# Altium schematic symbol library Inductors.SchLib: 11 symbols
Pins are listed as number, name and electrical type; pins without a type are passive.

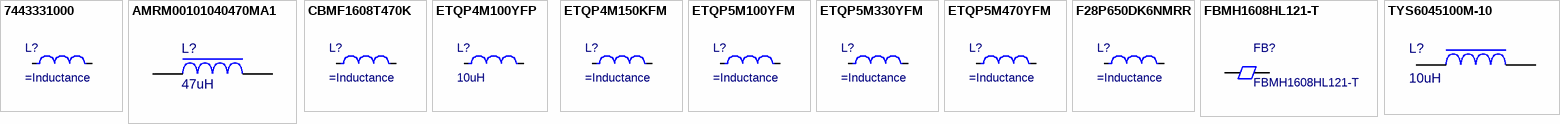
[diagram p0: symbols 7443331000 to TYS6045100M-10]

## 7443331000
designator L?
PowerChoke Shielded Wirewound 10uH 20% 100KHz Ferrite 9A 0.0231Ohm DCR Automotive T/R; Manufacturer: Wurth Elektronik; Manufacturer Part Number: 7443331000; DC Resistance (DCR): 22.75mΩ; Value: 10µH; Saturation Current: 9.4A; Self Resonant Frequency: 35MHz; Supplier: DigiKey; Supplier Part Number: 732-2158-1-ND; RoHS: Compliant; Category: Fixed Inductors; Stock: 12212; Pricing: 1=2,4, 10=2,32, 50=2,21, 100=2,13, 200=2,05 (USD); Ambient Temperature Range High: 75°C; Ambient Temperature Range Low: -40°C; Core Material: Ferrite; Current Rating: 9A; Height: 9.3mm; Inductance Tolerance: 20%; Length: 10.9mm; Material: Ferrite; Max Operating Temperature: 125°C; Min Operating Temperature: -40°C; Pins: 2; Width: 10mm; Inductance: 10µH; Supplier 1: DigiKey; Supplier Part Number 1: 732-2158-1-ND
pins: 1, 2

## AMRM00101040470MA1
designator L?, comment 47uH
IND 47UH SHLD 20% 3.0A; Manufacturer: Pulse; Manufacturer Part Number: AMRM00101040470MA1; Supplier: Digikey; Supplier Part Number: 553-AMRM00101040470MA1CT-ND; RoHS: No; Stock: 9595; Pricing: 1=0,6, 10=0,497, 25=0,46, 50=0,4336, 100=0,4089, 250=0,37824 (USD); ComponentLink1URL: https://datasheet.octopart.com/AMRM00101040470MA1-Pulse-datasheet-175919293.pdf?src-supplier=Sager+Electronics; ComponentLink1Description: https://datasheet.octopart.com/AMRM00101040470MA1-Pulse-datasheet-175919293.pdf?src-supplier=Sager+Electronics; Supplier 1: Digikey; Supplier Part Number 1: 553-AMRM00101040470MA1CT-ND; Inductance: 47uH
footprint AMRM00101040470MA1 (Inductor 11.6x10.2)
pins: 1, 2

## CBMF1608T470K
designator L?
Inductor Power Chip Wirewound 47uH 10% 2.52MHz Ferrite 0.14A 3.25Ohm DCR 0603 T/R; Manufacturer: Taiyo Yuden; Manufacturer Part Number: CBMF1608T470K; Current Rating: 50mA; DC Current: 140mA; DC Resistance (DCR): 2.5Ω; Value: 47µH; Number of Circuits: 1; Self Resonant Frequency: 11MHz; ESR: 3.25Ω; Shielding: No; Supplier: DigiKey; Supplier Part Number: 587-1722-1-ND; RoHS: Compliant; Category: Fixed Inductors; Stock: 121922; Pricing: 1=0,16, 10=0,131, 100=0,1079, 1000=0,08875 (USD); Case/Package: 0603; Case Code (Imperial): 0603; Case Code (Metric): 1608; Composition: Wirewound; Core Material: Ferrite; Depth: 1mm; Halogen Free: Halogen Free; Height: 800µm; Height - Seated (Max): 990.6µm; Inductance Tolerance: 10%; Lead Free: Lead Free; Length: 1.6002mm; Lifecycle Status: Production; Max Current Rating: 50mA; Max DC Current: 140mA; Max Length: 1.8mm; Max Operating Temperature: 105°C; Max Saturation Current: 50mA; Max Temperature Rise Current: 140mA; Max Width: 1mm; Military Standard: Not; Min Length: 1.4mm; Min Operating Temperature: -40°C; Min Width: 600µm; Mounting Technology: Surface Mount; Number of Terminals: 2; Radiation Hardening: No; REACH SVHC: Yes; RMS Current (Irms): 140mA; Saturation Current: 50mA; Termination: SMD/SMT; Test Frequency: 2.52MHz; Tolerance: 10%; Width: 800µm; ComponentLink1URL: https://datasheet.octopart.com:443/CBMF1608T470K-Taiyo-Yuden-datasheet-181258718.pdf?src-supplier=Newark; ComponentLink1Description: https://datasheet.octopart.com:443/CBMF1608T470K-Taiyo-Yuden-datasheet-181258718.pdf?src-supplier=Newark; ComponentLink2URL: https://datasheet.octopart.com:443/CBMF1608T470K-Taiyo-Yuden-datasheet-120109.pdf?src-supplier=Farnell; ComponentLink2Description: https://datasheet.octopart.com:443/CBMF1608T470K-Taiyo-Yuden-datasheet-120109.pdf?src-supplier=Farnell; ComponentLink3URL: https://datasheet.octopart.com:443/CBMF1608T470K-Taiyo-Yuden-datasheet-154807662.pdf?src-supplier=Master+Electronics; ComponentLink3Description: https://datasheet.octopart.com:443/CBMF1608T470K-Taiyo-Yuden-datasheet-154807662.pdf?src-supplier=Master+Electronics; ComponentLink4URL: https://datasheet.octopart.com:443/CBMF1608T470K-Taiyo-Yuden-datasheet-141251735.pdf?src-supplier=Taiyo+Yuden+SCT; ComponentLink4Description: https://datasheet.octopart.com:443/CBMF1608T470K-Taiyo-Yuden-datasheet-141251735.pdf?src-supplier=Taiyo+Yuden+SCT; ComponentLink5URL: https://datasheet.octopart.com:443/CBMF1608T470K-Taiyo-Yuden-datasheet-98959855.pdf?src-supplier=Future+Electronics; ComponentLink5Description: https://datasheet.octopart.com:443/CBMF1608T470K-Taiyo-Yuden-datasheet-98959855.pdf?src-supplier=Future+Electronics; ComponentLink6URL: https://datasheet.octopart.com:443/CBMF1608T470K-Taiyo-Yuden-datasheet-62109205.pdf?src-supplier=Electro+Sonic; ComponentLink6Description: https://datasheet.octopart.com:443/CBMF1608T470K-Taiyo-Yuden-datasheet-62109205.pdf?src-supplier=Electro+Sonic; ComponentLink7URL: https://datasheet.octopart.com:443/CBMF1608T470K-Taiyo-Yuden-datasheet-41181422.pdf?src-supplier=Electro+Sonic; ComponentLink7Description: https://datasheet.octopart.com:443/CBMF1608T470K-Taiyo-Yuden-datasheet-41181422.pdf?src-supplier=Electro+Sonic; ComponentLink8URL: https://datasheet.octopart.com/CBMF1608T470K-Taiyo-Yuden-datasheet-17272049.pdf; ComponentLink8Description: https://datasheet.octopart.com/CBMF1608T470K-Taiyo-Yuden-datasheet-17272049.pdf; ComponentLink9URL: https://datasheet.octopart.com:443/CBMF1608T470K-Taiyo-Yuden-datasheet-13714792.pdf?src-supplier=_legacy+Avnet; ComponentLink9Description: https://datasheet.octopart.com:443/CBMF1608T470K-Taiyo-Yuden-datasheet-13714792.pdf?src-supplier=_legacy+Avnet; Supplier 1: DigiKey; Supplier Part Number 1: 587-1722-1-ND; Inductance: 47µH
pins: 1, 2

## ETQP4M100YFP
designator L?, comment 10uH
Inductor Fixed 10UH SMD; Manufacturer: Panasonic; Manufacturer Part Number: ETQ-P4M100YFP; Supplier 1: DigiKey; Supplier Part Number 1: 10-ETQ-P4M100YFPCT-ND; Supplier: DigiKey; Supplier Part Number: 10-ETQ-P4M100YFPCT-ND; Category: Fixed Inductors; Pricing: 1=1,05, 10=0,86, 25=0,796, 50=0,7504, 100=0,7075, 250=0,65452, 500=0,61714 (USD); Inductance: 10uH
footprint ETQP4MxxxYFP (5.5mm x5mm inductor package)
pins: 1, 2

## ETQP4M150KFM
designator L?
Power Inductor, 15Uh, Shielded, 7.2A Rohs Compliant: Yes |Panasonic ETQP4M150KFM; DC Resistance (DCR): 66.77mΩ; Value: 15µH; Max Current Rating: 4.6A; Number of Circuits: 1; Test Frequency: 100kHz; Tolerance: 20%; Supplier 1: DigiKey; Supplier Part Number 1: 10-ETQ-P4M150KFMCT-ND; Supplier: DigiKey; Supplier Part Number: 10-ETQ-P4M150KFMCT-ND; Manufacturer: Panasonic; Manufacturer Part Number: ETQP4M150KFM; RoHS: Compliant; Category: Fixed Inductors; Stock: 1970; Pricing: 1=0,76, 10=0,623, 25=0,5768, 50=0,5438, 100=0,5126, 250=0,47424 (USD); Height: 4.8mm; Lifecycle Status: Production; Max Operating Temperature: 150°C; Min Operating Temperature: -40°C; Number of Terminals: 2; REACH SVHC: Yes; Shielding: Yes; Width: 7mm; ComponentLink1URL: https://datasheet.octopart.com:443/ETQP4M150KFM-Panasonic-datasheet-180975443.pdf?src-supplier=IHS; ComponentLink1Description: https://datasheet.octopart.com:443/ETQP4M150KFM-Panasonic-datasheet-180975443.pdf?src-supplier=IHS; Inductance: 15µH
footprint ETQP4MxxxYFP (5.5mm x5mm inductor package)
pins: 1, 2

## ETQP5M100YFM
designator L?
Power Choke Shielded Wirewound 10uH 20% 100KHz Metal 5.7A 0.0413Ohm DCR Automotive T/R; Manufacturer: Panasonic; Manufacturer Part Number: ETQP5M100YFM; Core Material: Composite, Metal; DC Resistance (DCR): 41.3mΩ; Value: 10µH; Number of Circuits: 1; Saturation Current: 10.6A; Shielding: Yes; Supplier 1: DigiKey; Supplier Part Number 1: P17067CT-ND; Supplier: DigiKey; Supplier Part Number: P17067CT-ND; RoHS: Compliant; Category: Fixed Inductors; Stock: 4198; Pricing: 1=1,06, 10=0,873, 25=0,8072, 50=0,7612, 100=0,7176, 250=0,66392 (USD); Case/Package: Nonstandard; Composition: Wirewound; Depth: 7mm; Height: 5.4mm; Height - Seated (Max): 5.4102mm; Inductance Tolerance: 20%; Length: 7.493mm; Lifecycle Status: Production; Max Current Rating: 5.7A; Max DC Current: 5.7A; Max Operating Temperature: 150°C; Min Operating Temperature: -40°C; Mounting Technology: Surface Mount; Number of Terminals: 2; Packaging: Cut Tape; Ratings: AEC-Q200; REACH SVHC: Yes; Schedule B: 8504500000, 8504500000|8504500000|8504500000|8504500000|8504500000; Self Resonant Frequency: 100kHz; Termination: SMD/SMT; Test Frequency: 100kHz; Tolerance: 20%; Width: 7mm; ComponentLink1URL: https://datasheet.octopart.com:443/ETQP5M100YFM-Panasonic-datasheet-180975438.pdf?src-supplier=IHS; ComponentLink1Description: https://datasheet.octopart.com:443/ETQP5M100YFM-Panasonic-datasheet-180975438.pdf?src-supplier=IHS; ComponentLink2URL: https://datasheet.octopart.com:443/ETQP5M100YFM-Panasonic-datasheet-97125960.pdf?src-supplier=Future+Electronics; ComponentLink2Description: https://datasheet.octopart.com:443/ETQP5M100YFM-Panasonic-datasheet-97125960.pdf?src-supplier=Future+Electronics; ComponentLink3URL: https://datasheet.octopart.com:443/ETQP5M100YFM-Panasonic-datasheet-136612417.pdf?src-supplier=Newark; ComponentLink3Description: https://datasheet.octopart.com:443/ETQP5M100YFM-Panasonic-datasheet-136612417.pdf?src-supplier=Newark; ComponentLink4URL: https://datasheet.octopart.com:443/ETQP5M100YFM-Panasonic-datasheet-175423512.pdf?src-supplier=Newark; ComponentLink4Description: https://datasheet.octopart.com:443/ETQP5M100YFM-Panasonic-datasheet-175423512.pdf?src-supplier=Newark; ComponentLink5URL: https://datasheet.octopart.com:443/ETQ-P5M100YFM-Panasonic-datasheet-154766191.pdf?src-supplier=Master+Electronics; ComponentLink5Description: https://datasheet.octopart.com:443/ETQ-P5M100YFM-Panasonic-datasheet-154766191.pdf?src-supplier=Master+Electronics; ComponentLink6URL: https://datasheet.octopart.com:443/ETQ-P5M100YFM-Panasonic-datasheet-140363995.pdf?src-supplier=Master+Electronics; ComponentLink6Description: https://datasheet.octopart.com:443/ETQ-P5M100YFM-Panasonic-datasheet-140363995.pdf?src-supplier=Master+Electronics; ComponentLink7URL: https://datasheet.octopart.com:443/ETQP5M100YFM-Panasonic-datasheet-41393403.pdf?src-supplier=Electro+Sonic; ComponentLink7Description: https://datasheet.octopart.com:443/ETQP5M100YFM-Panasonic-datasheet-41393403.pdf?src-supplier=Electro+Sonic; ComponentLink8URL: https://datasheet.octopart.com:443/ETQP5M100YFM-Panasonic-datasheet-156876476.pdf?src-supplier=TME; ComponentLink8Description: https://datasheet.octopart.com:443/ETQP5M100YFM-Panasonic-datasheet-156876476.pdf?src-supplier=TME; ComponentLink9URL: https://sigma.octopart.com:443/150570891/technical_drawing/Panasonic-ETQP5M100YFM.pdf?src-supplier=Panasonic+SCT; ComponentLink9Description: https://sigma.octopart.com:443/150570891/technical_drawing/Panasonic-ETQP5M100YFM.pdf?src-supplier=Panasonic+SCT; Inductance: 10µH
footprint ETQP5MxxxYFM (7.5mm x7mm inductor package)
pins: 1, 2

## ETQP5M330YFM
designator L?
Ind Power Choke Wirewound 34uH 20% 100KHz Metal 3.3A T/R; Manufacturer: Panasonic; Manufacturer Part Number: ETQP5M330YFM; Core Material: Composite, Metal; DC Resistance (DCR): 132mΩ; Value: 33µH; Number of Circuits: 1; RMS Current (Irms): 2.6A; Saturation Current: 4.8A; ESR: 120mΩ; Shielding: Yes; Supplier 1: DigiKey; Supplier Part Number 1: PCD2460CT-ND; Supplier: DigiKey; Supplier Part Number: PCD2460CT-ND; RoHS: Compliant; Category: Fixed Inductors; Stock: 921; Pricing: 1=1,06, 10=0,873, 25=0,8072, 50=0,7612, 100=0,7176, 250=0,66392 (USD); Case/Package: Nonstandard; Composition: Wirewound; Current Rating: 3.3A; Depth: 7.9mm; Height: 5.4mm; Height - Seated (Max): 5.4102mm; Inductance Tolerance: 20%; Length: 8.509mm; Lifecycle Status: Production; Max Current Rating: 3.3A; Max DC Current: 3.3A; Max Operating Temperature: 150°C; Military Standard: Not; Min Operating Temperature: -40°C; Mounting Technology: Surface Mount; Number of Terminals: 2; Packaging: Cut Tape; Ratings: AEC-Q200; REACH SVHC: Yes; Schedule B: 8504500000|8504500000|8504500000|8504500000|8504500000; Self Resonant Frequency: 100kHz; Test Frequency: 100kHz; Tolerance: 20%; Width: 7mm; ComponentLink1URL: https://datasheet.octopart.com:443/ETQP5M330YFM-Panasonic-datasheet-180975438.pdf?src-supplier=IHS; ComponentLink1Description: https://datasheet.octopart.com:443/ETQP5M330YFM-Panasonic-datasheet-180975438.pdf?src-supplier=IHS; ComponentLink2URL: https://datasheet.octopart.com:443/ETQP5M330YFM-Panasonic-datasheet-10911968.pdf?src-supplier=Newark; ComponentLink2Description: https://datasheet.octopart.com:443/ETQP5M330YFM-Panasonic-datasheet-10911968.pdf?src-supplier=Newark; ComponentLink3URL: https://datasheet.octopart.com:443/ETQP5M330YFM-Panasonic-datasheet-136612417.pdf?src-supplier=Farnell; ComponentLink3Description: https://datasheet.octopart.com:443/ETQP5M330YFM-Panasonic-datasheet-136612417.pdf?src-supplier=Farnell; ComponentLink4URL: https://datasheet.octopart.com:443/ETQP5M330YFM-Panasonic-datasheet-103789982.pdf?src-supplier=Farnell; ComponentLink4Description: https://datasheet.octopart.com:443/ETQP5M330YFM-Panasonic-datasheet-103789982.pdf?src-supplier=Farnell; ComponentLink5URL: https://datasheet.octopart.com:443/ETQP5M330YFM-Panasonic-datasheet-81843036.pdf?src-supplier=Farnell; ComponentLink5Description: https://datasheet.octopart.com:443/ETQP5M330YFM-Panasonic-datasheet-81843036.pdf?src-supplier=Farnell; ComponentLink6URL: https://datasheet.octopart.com:443/ETQ-P5M330YFM-Panasonic-datasheet-154766191.pdf?src-supplier=Master+Electronics; ComponentLink6Description: https://datasheet.octopart.com:443/ETQ-P5M330YFM-Panasonic-datasheet-154766191.pdf?src-supplier=Master+Electronics; ComponentLink7URL: https://datasheet.octopart.com:443/ETQ-P5M330YFM-Panasonic-datasheet-140363995.pdf?src-supplier=Master+Electronics; ComponentLink7Description: https://datasheet.octopart.com:443/ETQ-P5M330YFM-Panasonic-datasheet-140363995.pdf?src-supplier=Master+Electronics; ComponentLink8URL: https://datasheet.octopart.com:443/ETQP5M330YFM-Panasonic-datasheet-97125960.pdf?src-supplier=Future+Electronics; ComponentLink8Description: https://datasheet.octopart.com:443/ETQP5M330YFM-Panasonic-datasheet-97125960.pdf?src-supplier=Future+Electronics; ComponentLink9URL: https://datasheet.octopart.com:443/ETQP5M330YFM-Panasonic-datasheet-156876476.pdf?src-supplier=TME; ComponentLink9Description: https://datasheet.octopart.com:443/ETQP5M330YFM-Panasonic-datasheet-156876476.pdf?src-supplier=TME; ComponentLink10URL: https://sigma.octopart.com:443/150570891/technical_drawing/Panasonic-ETQP5M330YFM.pdf?src-supplier=Panasonic+SCT; ComponentLink10Description: https://sigma.octopart.com:443/150570891/technical_drawing/Panasonic-ETQP5M330YFM.pdf?src-supplier=Panasonic+SCT; ComponentLink11URL: https://datasheet.octopart.com:443/ETQP5M330YFM-Panasonic-datasheet-61114973.pdf?src-supplier=element14+APAC; ComponentLink11Description: https://datasheet.octopart.com:443/ETQP5M330YFM-Panasonic-datasheet-61114973.pdf?src-supplier=element14+APAC; ComponentLink12URL: https://datasheet.octopart.com:443/ETQ-P5M330YFM-Panasonic-datasheet-31830631.pdf?src-supplier=Electro+Sonic; ComponentLink12Description: https://datasheet.octopart.com:443/ETQ-P5M330YFM-Panasonic-datasheet-31830631.pdf?src-supplier=Electro+Sonic; Inductance: 33µH
footprint ETQP5MxxxYFM (7.5mm x7mm inductor package)
pins: 1, 2

## ETQP5M470YFM
designator L?
Power Choke Shielded Wirewound 48uH 20% 100KHz Metal 2.9A 0.172Ohm DCR Automotive T/R; Manufacturer: Panasonic; Manufacturer Part Number: ETQP5M470YFM; Core Material: Composite, Metal; Current: 19A; DC Resistance (DCR): 172mΩ; Value: 48µH; Max DC Current: 1A; Number of Circuits: 1; RMS Current (Irms): 2.3A; Saturation Current: 4.1A; Shielding: Yes; Supplier 1: DigiKey; Supplier Part Number 1: PCD2319CT-ND; Supplier: DigiKey; Supplier Part Number: PCD2319CT-ND; RoHS: Compliant; Category: Fixed Inductors; Pricing: 1=1,06, 10=0,872, 25=0,8068, 50=0,7606, 100=0,7171, 250=0,66348 (USD); Case/Package: Metal; Depth: 7.9mm; Height: 5.4mm; Inductance Tolerance: 20%; Lead Free: Lead Free; Length: 7.5mm; Lifecycle Status: Production; Max Current Rating: 2.9A; Max Operating Temperature: 150°C; Military Standard: Not; Min Operating Temperature: -40°C; Mounting Technology: Surface Mount; Pins: 2; Number of Terminals: 2; Radiation Hardening: No; REACH SVHC: Yes; Schedule B: 8504500000; ESR: 172mΩ; Termination: SMD/SMT; Test Frequency: 100kHz; Tolerance: 20%; Width: 7mm; ComponentLink1URL: https://datasheet.octopart.com:443/ETQP5M470YFM-Panasonic-datasheet-180975438.pdf?src-supplier=IHS; ComponentLink1Description: https://datasheet.octopart.com:443/ETQP5M470YFM-Panasonic-datasheet-180975438.pdf?src-supplier=IHS; ComponentLink2URL: https://datasheet.octopart.com:443/ETQP5M470YFM-Panasonic-datasheet-97125960.pdf?src-supplier=Upverter; ComponentLink2Description: https://datasheet.octopart.com:443/ETQP5M470YFM-Panasonic-datasheet-97125960.pdf?src-supplier=Upverter; ComponentLink3URL: https://datasheet.octopart.com:443/ETQP5M470YFM-Panasonic-datasheet-8818269.pdf?src-supplier=element14+APAC; ComponentLink3Description: https://datasheet.octopart.com:443/ETQP5M470YFM-Panasonic-datasheet-8818269.pdf?src-supplier=element14+APAC; ComponentLink4URL: https://datasheet.octopart.com:443/ETQP5M470YFM-Panasonic-datasheet-136612417.pdf?src-supplier=Newark; ComponentLink4Description: https://datasheet.octopart.com:443/ETQP5M470YFM-Panasonic-datasheet-136612417.pdf?src-supplier=Newark; ComponentLink5URL: https://datasheet.octopart.com:443/ETQP5M470YFM-Panasonic-datasheet-10622521.pdf?src-supplier=Newark; ComponentLink5Description: https://datasheet.octopart.com:443/ETQP5M470YFM-Panasonic-datasheet-10622521.pdf?src-supplier=Newark; ComponentLink6URL: https://datasheet.octopart.com:443/ETQP5M470YFM-Panasonic-datasheet-81843036.pdf?src-supplier=Newark; ComponentLink6Description: https://datasheet.octopart.com:443/ETQP5M470YFM-Panasonic-datasheet-81843036.pdf?src-supplier=Newark; ComponentLink7URL: https://datasheet.octopart.com:443/ETQ-P5M470YFM-Panasonic-datasheet-78862187.pdf?src-supplier=Newark; ComponentLink7Description: https://datasheet.octopart.com:443/ETQ-P5M470YFM-Panasonic-datasheet-78862187.pdf?src-supplier=Newark; ComponentLink8URL: https://datasheet.octopart.com:443/ETQP5M470YFM-Panasonic-datasheet-103789982.pdf?src-supplier=Farnell; ComponentLink8Description: https://datasheet.octopart.com:443/ETQP5M470YFM-Panasonic-datasheet-103789982.pdf?src-supplier=Farnell; ComponentLink9URL: https://datasheet.octopart.com:443/ETQP5M470YFM-Panasonic-datasheet-13535884.pdf?src-supplier=Farnell; ComponentLink9Description: https://datasheet.octopart.com:443/ETQP5M470YFM-Panasonic-datasheet-13535884.pdf?src-supplier=Farnell; ComponentLink10URL: https://datasheet.octopart.com:443/ETQ-P5M470YFM-Panasonic-datasheet-154766191.pdf?src-supplier=Master+Electronics; ComponentLink10Description: https://datasheet.octopart.com:443/ETQ-P5M470YFM-Panasonic-datasheet-154766191.pdf?src-supplier=Master+Electronics; ComponentLink11URL: https://datasheet.octopart.com:443/ETQ-P5M470YFM-Panasonic-datasheet-140363995.pdf?src-supplier=Master+Electronics; ComponentLink11Description: https://datasheet.octopart.com:443/ETQ-P5M470YFM-Panasonic-datasheet-140363995.pdf?src-supplier=Master+Electronics; ComponentLink12URL: https://datasheet.octopart.com:443/ETQ-P5M470YFM-Panasonic-datasheet-8835794.pdf?src-supplier=Factory+Futures; ComponentLink12Description: https://datasheet.octopart.com:443/ETQ-P5M470YFM-Panasonic-datasheet-8835794.pdf?src-supplier=Factory+Futures; ComponentLink13URL: https://datasheet.octopart.com:443/ETQP5M470YFM-Panasonic-datasheet-7823580.pdf?src-supplier=element14; ComponentLink13Description: https://datasheet.octopart.com:443/ETQP5M470YFM-Panasonic-datasheet-7823580.pdf?src-supplier=element14; ComponentLink14URL: https://datasheet.octopart.com:443/ETQP5M470YFM-Panasonic-datasheet-61114973.pdf?src-supplier=Future+Electronics; ComponentLink14Description: https://datasheet.octopart.com:443/ETQP5M470YFM-Panasonic-datasheet-61114973.pdf?src-supplier=Future+Electronics; ComponentLink15URL: https://datasheet.octopart.com:443/ETQP5M470YFM-Panasonic-datasheet-156876476.pdf?src-supplier=TME; ComponentLink15Description: https://datasheet.octopart.com:443/ETQP5M470YFM-Panasonic-datasheet-156876476.pdf?src-supplier=TME; ComponentLink16URL: https://sigma.octopart.com:443/150570891/technical_drawing/Panasonic-ETQP5M470YFM.pdf?src-supplier=Panasonic+SCT; ComponentLink16Description: https://sigma.octopart.com:443/150570891/technical_drawing/Panasonic-ETQP5M470YFM.pdf?src-supplier=Panasonic+SCT; ComponentLink17URL: https://datasheet.octopart.com:443/ETQ-P5M470YFM-Panasonic-datasheet-31830631.pdf?src-supplier=Electro+Sonic; ComponentLink17Description: https://datasheet.octopart.com:443/ETQ-P5M470YFM-Panasonic-datasheet-31830631.pdf?src-supplier=Electro+Sonic; Inductance: 48µH
footprint ETQP5MxxxYFM (7.5mm x7mm inductor package)
pins: 1, 2

## F28P650DK6NMRR
designator L?
Power Choke Shielded Wirewound 10uH 20% 100KHz Metal 5.7A 0.0413Ohm DCR Automotive T/R; Manufacturer: Panasonic; Manufacturer Part Number: ETQP5M100YFM; Core Material: Composite, Metal; DC Resistance (DCR): 41.3mΩ; Value: 10µH; Number of Circuits: 1; Saturation Current: 10.6A; Shielding: Yes; Supplier 1: DigiKey; Supplier Part Number 1: P17067CT-ND; Supplier: DigiKey; Supplier Part Number: P17067CT-ND; RoHS: Compliant; Category: Fixed Inductors; Stock: 4198; Pricing: 1=1,06, 10=0,873, 25=0,8072, 50=0,7612, 100=0,7176, 250=0,66392 (USD); Case/Package: Nonstandard; Composition: Wirewound; Depth: 7mm; Height: 5.4mm; Height - Seated (Max): 5.4102mm; Inductance Tolerance: 20%; Length: 7.493mm; Lifecycle Status: Production; Max Current Rating: 5.7A; Max DC Current: 5.7A; Max Operating Temperature: 150°C; Min Operating Temperature: -40°C; Mounting Technology: Surface Mount; Number of Terminals: 2; Packaging: Cut Tape; Ratings: AEC-Q200; REACH SVHC: Yes; Schedule B: 8504500000, 8504500000|8504500000|8504500000|8504500000|8504500000; Self Resonant Frequency: 100kHz; Termination: SMD/SMT; Test Frequency: 100kHz; Tolerance: 20%; Width: 7mm; ComponentLink1URL: https://datasheet.octopart.com:443/ETQP5M100YFM-Panasonic-datasheet-180975438.pdf?src-supplier=IHS; ComponentLink1Description: https://datasheet.octopart.com:443/ETQP5M100YFM-Panasonic-datasheet-180975438.pdf?src-supplier=IHS; ComponentLink2URL: https://datasheet.octopart.com:443/ETQP5M100YFM-Panasonic-datasheet-97125960.pdf?src-supplier=Future+Electronics; ComponentLink2Description: https://datasheet.octopart.com:443/ETQP5M100YFM-Panasonic-datasheet-97125960.pdf?src-supplier=Future+Electronics; ComponentLink3URL: https://datasheet.octopart.com:443/ETQP5M100YFM-Panasonic-datasheet-136612417.pdf?src-supplier=Newark; ComponentLink3Description: https://datasheet.octopart.com:443/ETQP5M100YFM-Panasonic-datasheet-136612417.pdf?src-supplier=Newark; ComponentLink4URL: https://datasheet.octopart.com:443/ETQP5M100YFM-Panasonic-datasheet-175423512.pdf?src-supplier=Newark; ComponentLink4Description: https://datasheet.octopart.com:443/ETQP5M100YFM-Panasonic-datasheet-175423512.pdf?src-supplier=Newark; ComponentLink5URL: https://datasheet.octopart.com:443/ETQ-P5M100YFM-Panasonic-datasheet-154766191.pdf?src-supplier=Master+Electronics; ComponentLink5Description: https://datasheet.octopart.com:443/ETQ-P5M100YFM-Panasonic-datasheet-154766191.pdf?src-supplier=Master+Electronics; ComponentLink6URL: https://datasheet.octopart.com:443/ETQ-P5M100YFM-Panasonic-datasheet-140363995.pdf?src-supplier=Master+Electronics; ComponentLink6Description: https://datasheet.octopart.com:443/ETQ-P5M100YFM-Panasonic-datasheet-140363995.pdf?src-supplier=Master+Electronics; ComponentLink7URL: https://datasheet.octopart.com:443/ETQP5M100YFM-Panasonic-datasheet-41393403.pdf?src-supplier=Electro+Sonic; ComponentLink7Description: https://datasheet.octopart.com:443/ETQP5M100YFM-Panasonic-datasheet-41393403.pdf?src-supplier=Electro+Sonic; ComponentLink8URL: https://datasheet.octopart.com:443/ETQP5M100YFM-Panasonic-datasheet-156876476.pdf?src-supplier=TME; ComponentLink8Description: https://datasheet.octopart.com:443/ETQP5M100YFM-Panasonic-datasheet-156876476.pdf?src-supplier=TME; ComponentLink9URL: https://sigma.octopart.com:443/150570891/technical_drawing/Panasonic-ETQP5M100YFM.pdf?src-supplier=Panasonic+SCT; ComponentLink9Description: https://sigma.octopart.com:443/150570891/technical_drawing/Panasonic-ETQP5M100YFM.pdf?src-supplier=Panasonic+SCT; Inductance: 10µH
footprint ETQP5MxxxYFM (7.5mm x7mm inductor package)
pins: 1, 2

## FBMH1608HL121-T
designator FB?
FERRITE BEAD 120 OHM 0603 1LN; Manufacturer: Taiyo Yuden; Supplier: Digikey; Supplier Part Number: 587-1731-1-ND; Manufacturer Part Number: FBMH1608HL121-T; RoHS: Yes; Category: Ferrite Beads and Chips; Stock: 4210; Pricing: 1=0,17, 10=0,118, 25=0,1024, 50=0,0916, 100=0,082, 250=0,07028, 500=0,06222, 1000=0,05476 (USD); ComponentLink1URL: https://datasheet.ciiva.com/16001/104fbmh1608hl121-t-16001055.pdf?src-supplier=Onlinecomponents.com; ComponentLink1Description: https://datasheet.ciiva.com/16001/104fbmh1608hl121-t-16001055.pdf?src-supplier=Onlinecomponents.com; ComponentLink2URL: https://datasheet.ciiva.com/7966/fbmh1608hl121-t-ss-7966161.pdf?src-supplier=Element14; ComponentLink2Description: https://datasheet.ciiva.com/7966/fbmh1608hl121-t-ss-7966161.pdf?src-supplier=Element14; ComponentLink3URL: https://datasheet.ciiva.com/30209/fbmh1608hl121-t-30209463.pdf?src-supplier=Onlinecomponents.com; ComponentLink3Description: https://datasheet.ciiva.com/30209/fbmh1608hl121-t-30209463.pdf?src-supplier=Onlinecomponents.com; ComponentLink4URL: https://datasheet.ciiva.com/25612/0900766b810b37be-25612388.pdf?src-supplier=Rs; ComponentLink4Description: https://datasheet.ciiva.com/25612/0900766b810b37be-25612388.pdf?src-supplier=Rs; ComponentLink5URL: https://datasheet.ciiva.com/1012/chipbeads01-e-1012500.pdf?src-supplier=Digikey; ComponentLink5Description: https://datasheet.ciiva.com/1012/chipbeads01-e-1012500.pdf?src-supplier=Digikey; ComponentLink6URL: https://datasheet.ciiva.com/1012/chipbeads01-e-1012501.pdf?src-supplier=Digikey; ComponentLink6Description: https://datasheet.ciiva.com/1012/chipbeads01-e-1012501.pdf?src-supplier=Digikey; ComponentLink7URL: https://datasheet.ciiva.com/1012/chipbeads01-e-1012502.pdf?src-supplier=Digikey; ComponentLink7Description: https://datasheet.ciiva.com/1012/chipbeads01-e-1012502.pdf?src-supplier=Digikey; Supplier 1: Digikey; Supplier Part Number 1: 587-1731-1-ND
footprint FB0603 (Chip Resistor, 2-Leads, Body 1.75x0.95mm)
pins: 1, 2

## TYS6045100M-10
designator L?, comment 10uH
FIXED IND 10UH 2.45A 48 MOHM SMD; Manufacturer: Laird Steward; Manufacturer Part Number: TYS6045100M-10; ComponentLink1URL: http://www.mouser.com/ds/2/223/SIP-DS-TYS%206045%200413-558564.pdf?src-supplier=Mouser; ComponentLink1Description: http://www.mouser.com/ds/2/223/SIP-DS-TYS%206045%200413-558564.pdf?src-supplier=Mouser; ComponentLink2URL: http://assets.lairdtech.com/home/brandworld/files/TYS6045220M-10.pdf?src-supplier=Digi-Key; ComponentLink2Description: http://assets.lairdtech.com/home/brandworld/files/TYS6045220M-10.pdf?src-supplier=Digi-Key; Supplier: Digikey; Supplier Part Number: 240-2737-1-ND; RoHS: Yes; Category: Fixed Inductors; Stock: 6071; Pricing: 1=0,41, 10=0,337, 100=0,2774 (USD); RoHS Compliant: 5897YesNo; ComponentLink3URL: https://datasheet.ciiva.com/22622/1685889-22622963.pdf?src-supplier=Element14; ComponentLink3Description: https://datasheet.ciiva.com/22622/1685889-22622963.pdf?src-supplier=Element14; Supplier 1: Digikey; Supplier Part Number 1: 240-2737-1-ND; Inductance: 10uH
footprint TYS6045 (Footprint not found)
pins: 1, 2